# Altium footprint library Custom.PcbLib: 446 footprints (part 15 of 28)
Each footprint in its own frame and in the unit in brackets; x right, y up, seen from the top. Pads: shape width x height; smd on the part's side, far side on the other; paste and mask are expansions set on the pad; w line width, h text height; cw(c..) or ccw(c..) is an arc to the next point about the centre after c.
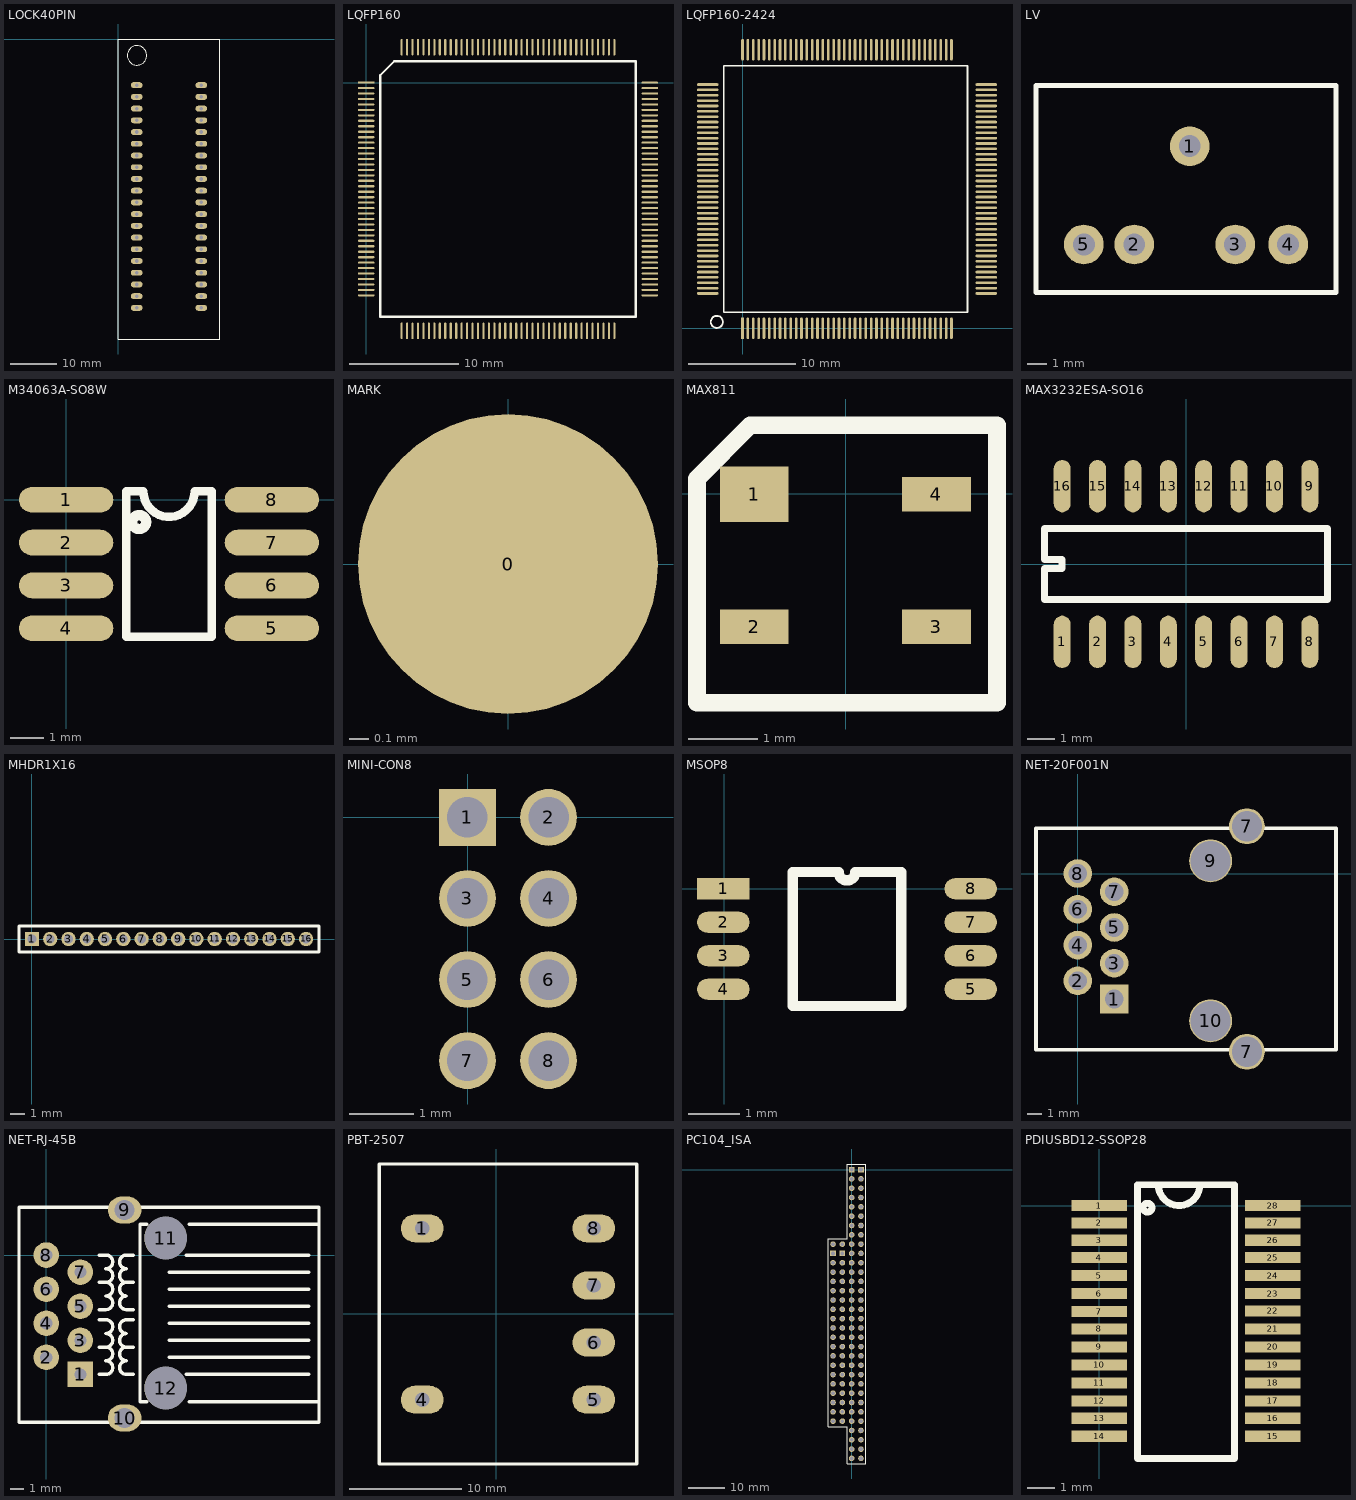
[diagram p14: the footprints below, top view; thin cyan lines are the x and y axes]

## LOCK40PIN [mm] "green lock IC"
pads (40):
  oval 2.54x1.27 hole 0.8: 1(4,-10) 2(4,-12.54) 3(4,-15.08) 4(4,-17.62) 5(4,-20.16) 6(4,-22.7) 7(4,-25.24) 8(4,-27.78) 9(4,-30.32) 10(4,-32.86) 11(4,-35.4) 12(4,-37.94) 13(4,-40.48) 14(4,-43.02) 15(4,-45.56) 16(4,-48.1) 17(4,-50.64) 18(4,-53.18) 19(4,-55.72) 20(4,-58.26) 21(18,-58.26) 22(18,-55.72) 23(18,-53.18) 24(18,-50.64) 25(18,-48.1) 26(18,-45.56) 27(18,-43.02) 28(18,-40.48) 29(18,-37.94) 30(18,-35.4) 31(18,-32.86) 32(18,-30.32) 33(18,-27.78) 34(18,-25.24) 35(18,-22.7) 36(18,-20.16) 37(18,-17.62) 38(18,-15.08) 39(18,-12.54) 40(18,-10)
Top Overlay:
  circle w0.254: c4.064,-3.556 r2.095
  lines w0.254: 0,-65 0,0 22,0 22,-65 0,-65

## LQFP160 [mm]
pads (160):
  rect 1.5x0.2 smd: 1(0,0)
  oval 1.5x0.2 smd: 2(0,-0.5) 3(0,-1) 4(0,-1.5) 5(0,-2) 6(0,-2.5) 7(0,-3) 8(0,-3.5) 9(0,-4) 10(0,-4.5) 11(0,-5) 12(0,-5.5) 13(0,-6) 14(0,-6.5) 15(0,-7) 16(0,-7.5) 17(0,-8) 18(0,-8.5) 19(0,-9) 20(0,-9.5) 21(0,-10) 22(0,-10.5) 23(0,-11) 24(0,-11.5) 25(0,-12) 26(0,-12.5) 27(0,-13) 28(0,-13.5) 29(0,-14) 30(0,-14.5) 31(0,-15) 32(0,-15.5) 33(0,-16) 34(0,-16.5) 35(0,-17) 36(0,-17.5) 37(0,-18) 38(0,-18.5) 39(0,-19) 40(0,-19.5) 81(26,-19.5) 82(26,-19) 83(26,-18.5) 84(26,-18) 85(26,-17.5) 86(26,-17) 87(26,-16.5) 88(26,-16) 89(26,-15.5) 90(26,-15) 91(26,-14.5) 92(26,-14) 93(26,-13.5) 94(26,-13) 95(26,-12.5) 96(26,-12) 97(26,-11.5) 98(26,-11) 99(26,-10.5) 100(26,-10) 101(26,-9.5) 102(26,-9) 103(26,-8.5) 104(26,-8) 105(26,-7.5) 106(26,-7) 107(26,-6.5) 108(26,-6) 109(26,-5.5) 110(26,-5) 111(26,-4.5) 112(26,-4) 113(26,-3.5) 114(26,-3) 115(26,-2.5) 116(26,-2) 117(26,-1.5) 118(26,-1) 119(26,-0.5) 120(26,0)
  oval 0.2x1.5 smd: 41(3.25,-22.75) 42(3.75,-22.75) 43(4.25,-22.75) 44(4.75,-22.75) 45(5.25,-22.75) 46(5.75,-22.75) 47(6.25,-22.75) 48(6.75,-22.75) 49(7.25,-22.75) 50(7.75,-22.75) 51(8.25,-22.75) 52(8.75,-22.75) 53(9.25,-22.75) 54(9.75,-22.75) 55(10.25,-22.75) 56(10.75,-22.75) 57(11.25,-22.75) 58(11.75,-22.75) 59(12.25,-22.75) 60(12.75,-22.75) 61(13.25,-22.75) 62(13.75,-22.75) 63(14.25,-22.75) 64(14.75,-22.75) 65(15.25,-22.75) 66(15.75,-22.75) 67(16.25,-22.75) 68(16.75,-22.75) 69(17.25,-22.75) 70(17.75,-22.75) 71(18.25,-22.75) 72(18.75,-22.75) 73(19.25,-22.75) 74(19.75,-22.75) 75(20.25,-22.75) 76(20.75,-22.75) 77(21.25,-22.75) 78(21.75,-22.75) 79(22.25,-22.75) 80(22.75,-22.75) 121(22.75,3.25) 122(22.25,3.25) 123(21.75,3.25) 124(21.25,3.25) 125(20.75,3.25) 126(20.25,3.25) 127(19.75,3.25) 128(19.25,3.25) 129(18.75,3.25) 130(18.25,3.25) 131(17.75,3.25) 132(17.25,3.25) 133(16.75,3.25) 134(16.25,3.25) 135(15.75,3.25) 136(15.25,3.25) 137(14.75,3.25) 138(14.25,3.25) 139(13.75,3.25) 140(13.25,3.25) 141(12.75,3.25) 142(12.25,3.25) 143(11.75,3.25) 144(11.25,3.25) 145(10.75,3.25) 146(10.25,3.25) 147(9.75,3.25) 148(9.25,3.25) 149(8.75,3.25) 150(8.25,3.25) 151(7.75,3.25) 152(7.25,3.25) 153(6.75,3.25) 154(6.25,3.25) 155(5.75,3.25) 156(5.25,3.25) 157(4.75,3.25) 158(4.25,3.25) 159(3.75,3.25) 160(3.25,3.25)
Top Overlay:
  lines w0.2: 1.285,-21.465 1.285,0.68 2.57,1.965 24.715,1.965 24.715,-21.465 1.285,-21.465

## LQFP160-2424 [mm]
pads (160):
  rect 0.25x2 smd: 1(0,0)
  oval 0.25x2 smd: 2(0.5,0) 3(1,0) 4(1.5,0) 5(2,0) 6(2.5,0) 7(3,0) 8(3.5,0) 9(4,0) 10(4.5,0) 11(5,0) 12(5.5,0) 13(6,0) 14(6.5,0) 15(7,0) 16(7.5,0) 17(8,0) 18(8.5,0) 19(9,0) 20(9.5,0) 21(10,0) 22(10.5,0) 23(11,0) 24(11.5,0) 25(12,0) 26(12.5,0) 27(13,0) 28(13.5,0) 29(14,0) 30(14.5,0) 31(15,0) 32(15.5,0) 33(16,0) 34(16.5,0) 35(17,0) 36(17.5,0) 37(18,0) 38(18.5,0) 39(19,0) 40(19.5,0) 81(19.5,26) 82(19,26) 83(18.5,26) 84(18,26) 85(17.5,26) 86(17,26) 87(16.5,26) 88(16,26) 89(15.5,26) 90(15,26) 91(14.5,26) 92(14,26) 93(13.5,26) 94(13,26) 95(12.5,26) 96(12,26) 97(11.5,26) 98(11,26) 99(10.5,26) 100(10,26) 101(9.5,26) 102(9,26) 103(8.5,26) 104(8,26) 105(7.5,26) 106(7,26) 107(6.5,26) 108(6,26) 109(5.5,26) 110(5,26) 111(4.5,26) 112(4,26) 113(3.5,26) 114(3,26) 115(2.5,26) 116(2,26) 117(1.5,26) 118(1,26) 119(0.5,26) 120(0,26)
  oval 2x0.25 smd: 41(22.75,3.25) 42(22.75,3.75) 43(22.75,4.25) 44(22.75,4.75) 45(22.75,5.25) 46(22.75,5.75) 47(22.75,6.25) 48(22.75,6.75) 49(22.75,7.25) 50(22.75,7.75) 51(22.75,8.25) 52(22.75,8.75) 53(22.75,9.25) 54(22.75,9.75) 55(22.75,10.25) 56(22.75,10.75) 57(22.75,11.25) 58(22.75,11.75) 59(22.75,12.25) 60(22.75,12.75) 61(22.75,13.25) 62(22.75,13.75) 63(22.75,14.25) 64(22.75,14.75) 65(22.75,15.25) 66(22.75,15.75) 67(22.75,16.25) 68(22.75,16.75) 69(22.75,17.25) 70(22.75,17.75) 71(22.75,18.25) 72(22.75,18.75) 73(22.75,19.25) 74(22.75,19.75) 75(22.75,20.25) 76(22.75,20.75) 77(22.75,21.25) 78(22.75,21.75) 79(22.75,22.25) 80(22.75,22.75) 121(-3.25,22.75) 122(-3.25,22.25) 123(-3.25,21.75) 124(-3.25,21.25) 125(-3.25,20.75) 126(-3.25,20.25) 127(-3.25,19.75) 128(-3.25,19.25) 129(-3.25,18.75) 130(-3.25,18.25) 131(-3.25,17.75) 132(-3.25,17.25) 133(-3.25,16.75) 134(-3.25,16.25) 135(-3.25,15.75) 136(-3.25,15.25) 137(-3.25,14.75) 138(-3.25,14.25) 139(-3.25,13.75) 140(-3.25,13.25) 141(-3.25,12.75) 142(-3.25,12.25) 143(-3.25,11.75) 144(-3.25,11.25) 145(-3.25,10.75) 146(-3.25,10.25) 147(-3.25,9.75) 148(-3.25,9.25) 149(-3.25,8.75) 150(-3.25,8.25) 151(-3.25,7.75) 152(-3.25,7.25) 153(-3.25,6.75) 154(-3.25,6.25) 155(-3.25,5.75) 156(-3.25,5.25) 157(-3.25,4.75) 158(-3.25,4.25) 159(-3.25,3.75) 160(-3.25,3.25)
Top Overlay:
  circle w0.178: c-2.4,0.6 r0.566
  lines w0.178: -1.75,1.5 -1.75,24.5 21,24.5 21,1.5 -1.75,1.5

## LV [mm]
pads (5):
  round 2 hole 1.1: 1(-749.173,-906.78) 2(-751.967,-911.733) 3(-746.887,-911.733) 4(-744.22,-911.733) 5(-754.507,-911.733)
Top Overlay:
  lines w0.254: -756.92,-914.146 -741.807,-914.146 -741.807,-903.732 -756.92,-903.732 -756.92,-914.146

## M34063A-SO8W [mil]
pads (8):
  oval 110x30 smd: 1(0,0) 2(0,-50) 3(0,-100) 4(0,-150) 5(240,-150) 6(240,-100) 7(240,-50) 8(240,0)
Top Overlay:
  circle w12: c85.18,-26.11 r8.12
  lines w10: 70,-160 170,-160 170,10 150,10 cw(c120,10) 90,10 70,10 70,-160

## MARK [mil]
pads (1):
  round 60 all layers, no hole: 0(0,0)

## MAX811 [mm]
pads (4):
  rect 1x0.8 smd: 1(-1.325,-0.004)
  rect 1x0.5 smd: 2(-1.325,-1.924) 3(1.315,-1.924) 4(1.315,-0.004)
Top Overlay:
  lines w0.254: -2.155,-3.029 -2.155,0.221 -1.38,0.996 2.195,0.996 2.195,-3.029 -2.155,-3.029

## MAX3232ESA-SO16 [mil]
pads (16):
  oval 24x74 smd: 1(-175,-110) 2(-125,-110) 3(-75,-110) 4(-25,-110) 5(25,-110) 6(75,-110) 7(125,-110) 8(175,-110) 9(175,110) 10(125,110) 11(75,110) 12(25,110) 13(-25,110) 14(-75,110) 15(-125,110) 16(-175,110)
Top Overlay:
  lines w10: -200,-50 200,-50 200,50 -200,50 -200,6.25 -175,6.25 -175,-6.25 -200,-6.25 -200,-50

## MHDR1X16 [mm] "Connector; Header; 16 Position"
pads (16):
  rect 1x1 hole 0.6: 1(0,0)
  round 1 hole 0.6: 2(1.27,0) 3(2.54,0) 4(3.81,0) 5(5.08,0) 6(6.35,0) 7(7.62,0) 8(8.89,0) 9(10.16,0) 10(11.43,0) 11(12.7,0) 12(13.97,0) 13(15.24,0) 14(16.51,0) 15(17.78,0) 16(19.05,0)
Top Overlay:
  lines w0.2: -0.9,-0.9 19.95,-0.9 19.95,0.9 -0.9,0.9 -0.9,-0.9

## MINI-CON8 [mil]
pads (8):
  rect 35x35 hole 25: 1(-0.3,0)
  round 35 hole 25: 2(49.7,0) 3(-0.3,-50) 4(49.7,-50) 5(-0.3,-100) 6(49.7,-100) 7(-0.3,-150) 8(49.7,-150)

## MSOP8 [mm]
pads (8):
  rect 1.02x0.41 smd: 1(-0.017,-0.002)
  oval 1.02x0.41 smd: 2(-0.017,-0.652) 3(-0.017,-1.302) 4(-0.017,-1.952) 5(4.783,-1.952) 6(4.783,-1.302) 7(4.783,-0.652) 8(4.783,-0.002)
Top Overlay:
  lines w0.2: 1.328,-2.277 1.328,0.323 2.22,0.323 ccw(c2.383,0.323) 2.545,0.323 3.438,0.323 3.438,-2.277 1.328,-2.277

## NET-20F001N [mm]
pads (12):
  rect 2x2 hole 1.3: 1(2.54,-8.763)
  round 2 hole 1.3: 2(0,-7.493) 3(2.54,-6.265) 4(0,-4.995) 5(2.54,-3.768) 6(0,-2.498) 7(2.54,-1.27) 8(0,0)
  round 2.5 hole 2.1: 7(11.811,-12.446) 7(11.811,3.302)
  round 3 hole 2.8: 9(9.271,0.889) 10(9.271,-10.287)
Top Overlay:
  lines w0.254: -2.921,-12.319 18.034,-12.319 18.034,3.175 -2.921,3.175 -2.921,-12.319

## NET-RJ-45B [mm]
pads (12):
  rect 1.905x1.905 hole 0.9: 1(2.54,-8.89)
  round 1.905 hole 0.9: 2(0,-7.62) 3(2.54,-6.35) 4(0,-5.08) 5(2.54,-3.81) 6(0,-2.54) 7(2.54,-1.27) 8(0,0)
  oval 2.5x2 hole 1.5: 9(5.84,3.36) 10(5.84,-12.14)
  round 3.175 hole 3.175: 11(8.89,1.27) 12(8.89,-9.906)
Top Overlay:
  lines w0.254: 3.937,-8.89 4.445,-8.89 ccw(c4.445,-8.382) 4.445,-7.874 ccw(c4.445,-7.366) 4.445,-6.858 ; 3.937,-6.858 4.445,-6.858 ; 3.937,-4.826 4.445,-4.826 cw(c4.445,-5.334) 4.445,-5.842 cw(c4.445,-6.35) 4.445,-6.858 ; 3.937,-4.064 4.445,-4.064 ccw(c4.445,-3.556) 4.445,-3.048 ccw(c4.445,-2.54) 4.445,-2.032 ; 3.937,-2.032 4.445,-2.032 ; 3.937,0 4.445,0 cw(c4.445,-0.508) 4.445,-1.016 cw(c4.445,-1.524) 4.445,-2.032 ; 6.477,-8.89 5.969,-8.89 cw(c5.969,-8.382) 5.969,-7.874 cw(c5.969,-7.366) 5.969,-6.858 ; 6.477,-6.858 5.969,-6.858 ; 6.477,-4.826 5.969,-4.826 ccw(c5.969,-5.334) 5.969,-5.842 ccw(c5.969,-6.35) 5.969,-6.858 ; 6.477,-4.064 5.969,-4.064 cw(c5.969,-3.556) 5.969,-3.048 cw(c5.969,-2.54) 5.969,-2.032 ; 6.477,-2.032 5.969,-2.032 ; 6.477,0 5.969,0 ccw(c5.969,-0.508) 5.969,-1.016 ccw(c5.969,-1.524) 5.969,-2.032 ; 7.493,-10.922 6.985,-10.922 6.985,2.286 7.493,2.286 ; 9.144,-7.62 19.558,-7.62 ; 9.144,-6.35 19.558,-6.35 ; 9.144,-5.08 19.558,-5.08 ; 9.144,-3.81 19.558,-3.81 ; 9.144,-2.54 19.558,-2.54 ; 9.144,-1.27 19.558,-1.27 ; 10.414,-8.89 13.716,-8.89 19.558,-8.89 ; 10.414,0 13.462,0 19.558,0 ; 10.668,-10.922 17.272,-10.922 20.32,-10.922 ; 10.668,2.286 17.272,2.286 20.32,2.286 ; -2.032,-12.446 -2.032,3.556 -1.524,3.556 17.272,3.556 20.32,3.556 20.32,-12.446 17.272,-12.446 -1.524,-12.446 -2.032,-12.446

## PBT-2507 [mil]
pads (6):
  oval 150x98 hole 50: 1(-259,299) 4(-259,-301) 5(341,-301) 6(341,-101) 7(341,99) 8(341,299)
Top Overlay:
  lines w12: -409,-526 491,-526 491,524 -409,524 -409,-526

## PC104_ISA [mil]
pads (104):
  rect 60x60 hole 40: A1(0,0) B1(100,0) C1(-100,-900) D1(-200,-900)
  round 60 hole 40: A2(0,-100) A3(0,-200) A4(0,-300) A5(0,-400) A6(0,-500) A7(0,-600) A8(0,-700) A9(0,-800) A10(0,-900) A11(0,-1000) A12(0,-1100) A13(0,-1200) A14(0,-1300) A15(0,-1400) A16(0,-1500) A17(0,-1600) A18(0,-1700) A19(0,-1800) A20(0,-1900) A21(0,-2000) A22(0,-2100) A23(0,-2200) A24(0,-2300) A25(0,-2400) A26(0,-2500) A27(0,-2600) A28(0,-2700) A29(0,-2800) A30(0,-2900) A31(0,-3000) A32(0,-3100) B2(100,-100) B3(100,-200) B4(100,-300) B5(100,-400) B6(100,-500) B7(100,-600) B8(100,-700) B9(100,-800) B10(100,-900) B11(100,-1000) B12(100,-1100) B13(100,-1200) B14(100,-1300) B15(100,-1400) B16(100,-1500) B17(100,-1600) B18(100,-1700) B19(100,-1800) B20(100,-1900) B21(100,-2000) B22(100,-2100) B23(100,-2200) B24(100,-2300) B25(100,-2400) B26(100,-2500) B27(100,-2600) B28(100,-2700) B29(100,-2800) B30(100,-2900) B31(100,-3000) B32(100,-3100) C0(-100,-800) C2(-100,-1000) C3(-100,-1100) C4(-100,-1200) C5(-100,-1300) C6(-100,-1400) C7(-100,-1500) C8(-100,-1600) C9(-100,-1700) C10(-100,-1800) C11(-100,-1900) C12(-100,-2000) C13(-100,-2100) C14(-100,-2200) C15(-100,-2300) C16(-100,-2400) C17(-100,-2500) C18(-100,-2600) C19(-100,-2700) D0(-200,-800) D2(-200,-1000) D3(-200,-1100) D4(-200,-1200) D5(-200,-1300) D6(-200,-1400) D7(-200,-1500) D8(-200,-1600) D9(-200,-1700) D10(-200,-1800) D11(-200,-1900) D12(-200,-2000) D13(-200,-2100) D14(-200,-2200) D15(-200,-2300) D16(-200,-2400) D17(-200,-2500) D18(-200,-2600) D19(-200,-2700)
Top Overlay:
  lines w10: -250,-2760 -50,-2760 -50,-3160 150,-3160 150,60 -50,60 -50,-740 -250,-740 -250,-2760

## PDIUSBD12-SSOP28 [mil]
pads (28):
  rect 80x16 smd: 1(0,0) 2(0,-25) 3(0,-50) 4(0,-75) 5(0,-101) 6(0,-127) 7(0,-153) 8(0,-178) 9(0,-204) 10(0,-230) 11(0,-256) 12(0,-282) 13(0,-307) 14(0,-333) 15(250,-333) 16(250,-307) 17(250,-282) 18(250,-256) 19(250,-230) 20(250,-204) 21(250,-178) 22(250,-152) 23(250,-127) 24(250,-101) 25(250,-75) 26(250,-50) 27(250,-25) 28(250,0)
Top Overlay:
  circle w10: c69.44,-3.02 r6.41
  lines w10: 85,30 ccw(c115,30) 145,30 ; 55,-365 195,-365 195,30 55,30 55,-365